# Altium schematic symbol library 2020-01-26_02-46-25.SchLib: 2 symbols
Pins are listed as number, name and electrical type; pins without a type are passive.

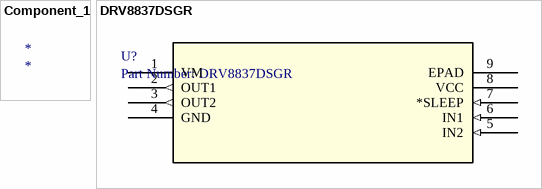
[diagram p0: symbols Component_1 to DRV8837DSGR]

## Component_1
designator *

## DRV8837DSGR
designator U?, comment Part Number: DRV8837DSGR
No Description Available; Vendor: Texas Instruments; Built_By: EMA_UL_Team; Manufacturer_Part_Number: DRV8837DSGR; Copyright: Copyright (C) 2018 Accelerated Designs. All rights reserved; RefDes: RefDes; Type: DEV; Value: Value
footprint DSG_8
pins: 1 VM, 2 OUT1 (out), 3 OUT2 (out), 4 GND (power), 5 IN2 (in), 6 IN1 (in), 7 *SLEEP (in), 8 VCC (power), 9 EPAD